# EAGLE library part CP2114 (library my_ic)
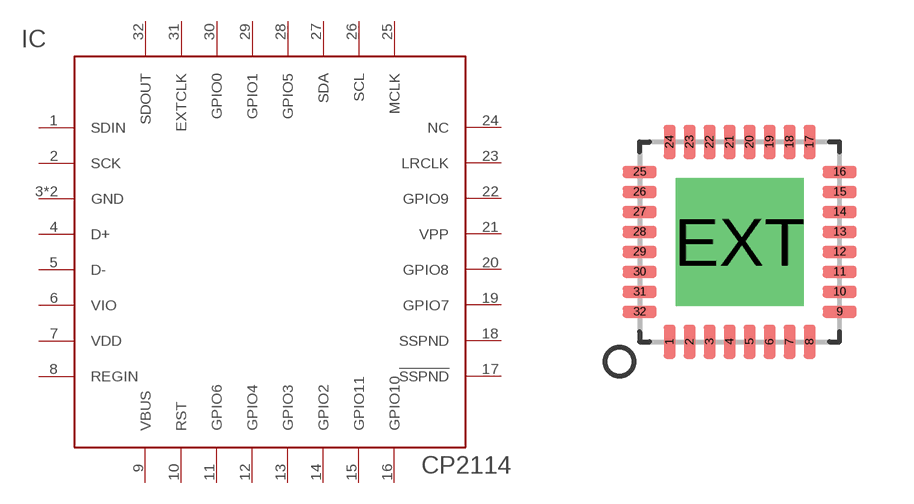
[diagram p11: symbol with the pads of QFN32; footprint QFN32]

Designator prefix IC

## CP2114  [QFN32]
1  SDIN  in
2  SCK  out
3  GND  pwr
4  D+
5  D-
6  VIO  pwr
7  VDD  sup
8  REGIN  pwr
9  VBUS  in
10  RST  in
11  GPIO6
12  GPIO4
13  GPIO3
14  GPIO2
15  GPIO11
16  GPIO10
17  !SSPND!  out
18  SSPND  out
19  GPIO7
20  GPIO8
21  VPP  pas
22  GPIO9
23  LRCLK  out
24  NC
25  MCLK  out
26  SCL
27  SDA
28  GPIO5
29  GPIO1
30  GPIO0
31  EXTCLK  in
32  SDOUT  out
EXT  GND  pwr

## Footprint QFN32 (pad centres in mm)
QFN 32 Source: http://www.ftdichip.com/Documents/DataSheets/DS_FT232R_v104.pdf
smd 0.3 x 0.85: 1 -1.75,-2.5; 2 -1.25,-2.5; 3 -0.75,-2.5; 4 -0.25,-2.5; 5 0.25,-2.5; 6 0.75,-2.5; 7 1.25,-2.5; 8 1.75,-2.5; 17 1.75,2.5; 18 1.25,2.5; 19 0.75,2.5; 20 0.25,2.5; 21 -0.25,2.5; 22 -0.75,2.5; 23 -1.25,2.5; 24 -1.75,2.5
smd 0.85 x 0.3: 9 2.5,-1.75; 10 2.5,-1.25; 11 2.5,-0.75; 12 2.5,-0.25; 13 2.5,0.25; 14 2.5,0.75; 15 2.5,1.25; 16 2.5,1.75; 25 -2.5,1.75; 26 -2.5,1.25; 27 -2.5,0.75; 28 -2.5,0.25; 29 -2.5,-0.25; 30 -2.5,-0.75; 31 -2.5,-1.25; 32 -2.5,-1.75
drill 1.6 pad 3.2 square: EXT 0,0